# EAGLE library part JST_SH_10 (library ___connector)
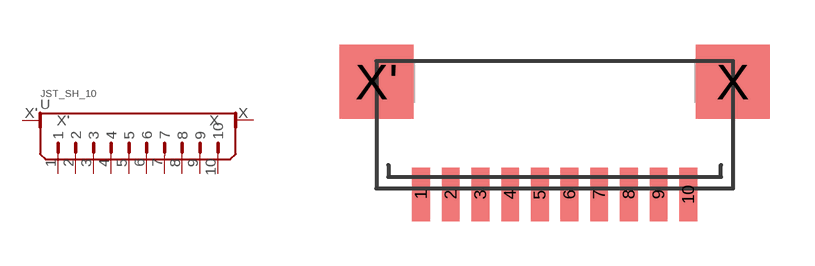
[diagram p2: symbol with the pads of JST_SH_10; footprint JST_SH_10]

Designator prefix -

## JST_SH_10  [JST_SH_10]
1  1
2  2
3  3
4  4
5  5
6  6
7  7
8  8
9  9
10  10
X  X
X'  X'

## Footprint JST_SH_10 (pad centres in mm)
smd 0.6 x 1.8: 1 -4.23,-3.47; 2 -3.23,-3.47; 3 -2.23,-3.47; 4 -1.23,-3.47; 5 -0.23,-3.47; 6 0.77,-3.47; 7 1.77,-3.47; 8 2.77,-3.47; 9 3.77,-3.47; 10 4.77,-3.47
smd 2.5 x 2.5: X 6.27,0.33; X' -5.73,0.33